# Altium footprint library 302-S201.PcbLib: 1 footprints
Each footprint in its own frame and in the unit in brackets; x right, y up, seen from the top. Pads: shape width x height; smd on the part's side, far side on the other; paste and mask are expansions set on the pad; w line width, h text height; cw(c..) or ccw(c..) is an arc to the next point about the centre after c.
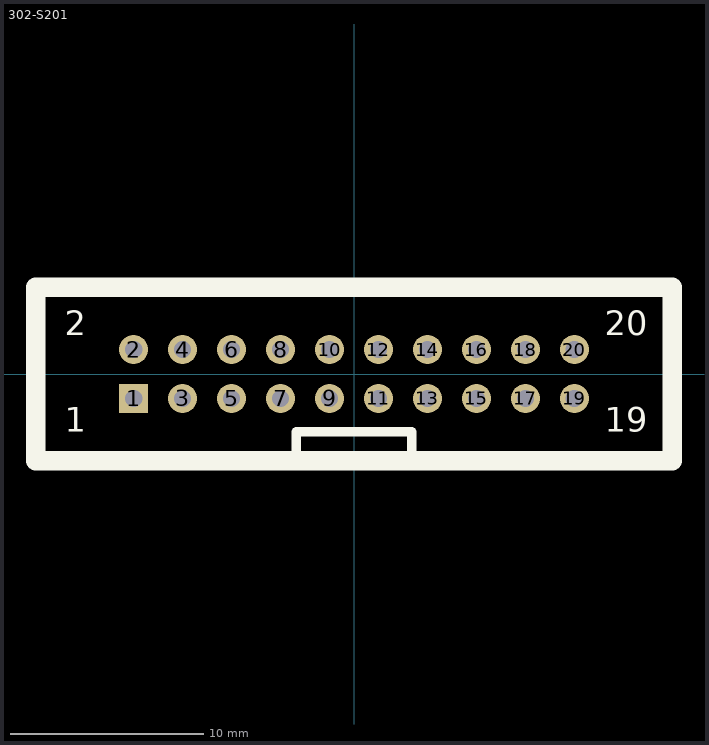
[diagram p0: the footprint, top view; thin cyan lines are the x and y axes]

## 302-S201 [mm] "Connector; Header; 10x2 Position"
pads (20):
  rect 1.5x1.5 hole 0.9: 1(-11.43,-1.27)
  round 1.5 hole 0.9: 2(-11.43,1.27) 3(-8.89,-1.27) 4(-8.89,1.27) 5(-6.35,-1.27) 6(-6.35,1.27) 7(-3.81,-1.27) 8(-3.81,1.27) 9(-1.27,-1.27) 10(-1.27,1.27) 11(1.27,-1.27) 12(1.27,1.27) 13(3.81,-1.27) 14(3.81,1.27) 15(6.35,-1.27) 16(6.35,1.27) 17(8.89,-1.27) 18(8.89,1.27) 19(11.43,-1.27) 20(11.43,1.27)
Top Overlay:
  lines w0.5: -3,-4 -3,-3 2,-3 3,-3 3,-4
  lines w1: -16.5,-4.5 16.5,-4.5 16.5,4.5 -16.5,4.5 -16.5,-4.5
  text "20" at 13,2 h1.27
  text "19" at 13,-3 h1.27
  text "1" at -15,-3 h1.27
  text "2" at -15,2 h1.27
3D body "302-S201.stp": height 8.75, standoff -3.35, extent -16.51,-4.5 16.51,4.6